# Altium footprint library Discrete_Passive.PcbLib: 313 footprints (part 15 of 20)
Each footprint in its own frame and in the unit in brackets; x right, y up, seen from the top. Pads: shape width x height; smd on the part's side, far side on the other; paste and mask are expansions set on the pad; w line width, h text height; cw(c..) or ccw(c..) is an arc to the next point about the centre after c.
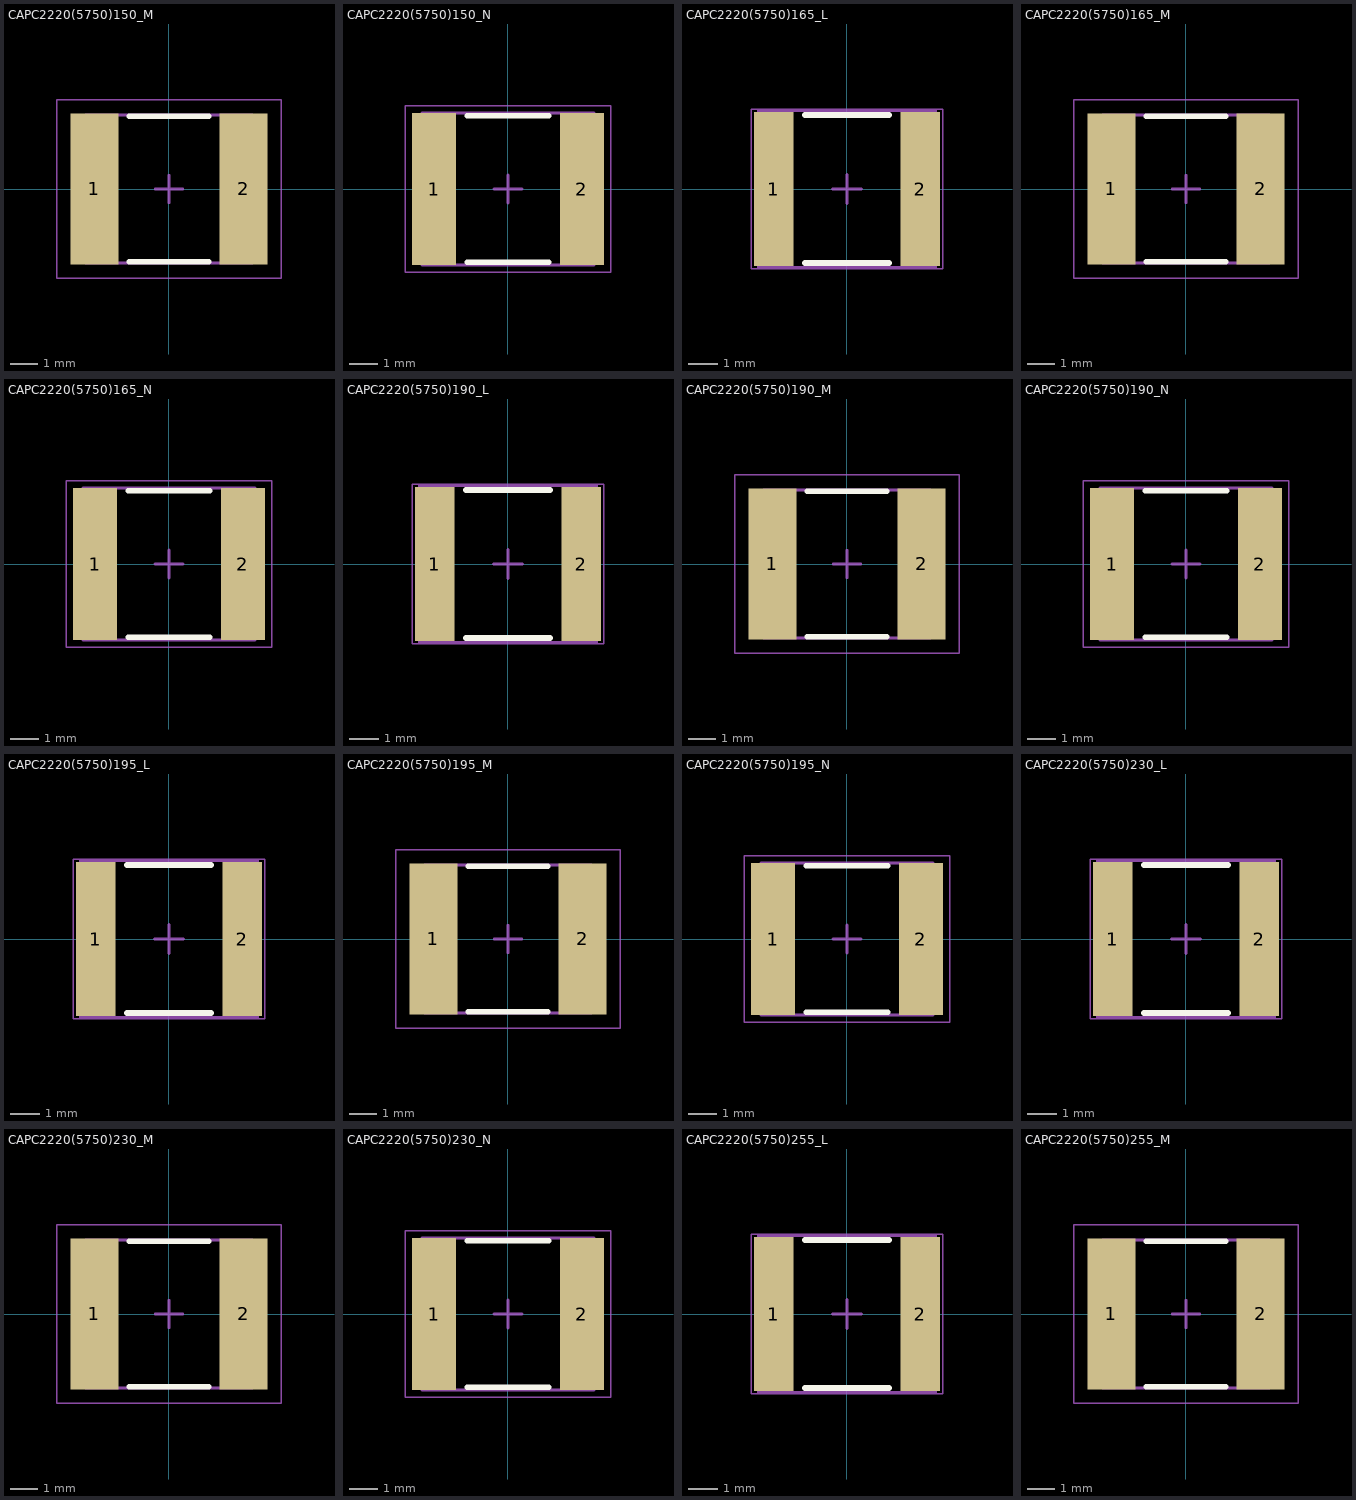
[diagram p14: the footprints below, top view; thin cyan lines are the x and y axes]

## CAPC2220(5750)150_M [mm] "Chip Capacitor, Body 5.7x5.0mm, Height 1.5mm, IPC Low Density"
height 1.5
pads (2):
  rect 1.75x5.5 smd: 1(-2.725,0) 2(2.725,0)
Top Overlay:
  lines w0.2: -1.45,-2.65 1.45,-2.65 ; -1.45,2.65 1.45,2.65
Mechanical 13:
  lines w0.1: -3.05,-2.7 3.05,-2.7 3.05,2.7 -3.05,2.7 -3.05,-2.7
Mechanical 15:
  lines w0.05: -4.1,-3.25 4.1,-3.25 4.1,3.25 -4.1,3.25 -4.1,-3.25
  lines w0.1: -0.5,0 0.5,0 ; 0,-0.5 0,0.5
3D body: height 1.5, standoff 0, extent 2.45,-2.7 3.05,2.7
3D body: height 1.5, standoff 0, extent -3.05,-2.7 -2.45,2.7
3D body: height 1.5, standoff 0, extent -2.45,-2.7 2.45,2.7

## CAPC2220(5750)150_N [mm] "Chip Capacitor, Body 5.7x5.0mm, Height 1.5mm, IPC Medium Density"
height 1.5
pads (2):
  rect 1.55x5.4 smd: 1(-2.625,0) 2(2.625,0)
Top Overlay:
  lines w0.2: -1.45,-2.6 1.45,-2.6 ; -1.45,2.6 1.45,2.6
Mechanical 13:
  lines w0.1: -3.05,-2.7 3.05,-2.7 3.05,2.7 -3.05,2.7 -3.05,-2.7
Mechanical 15:
  lines w0.05: -3.65,-2.95 3.65,-2.95 3.65,2.95 -3.65,2.95 -3.65,-2.95
  lines w0.1: -0.5,0 0.5,0 ; 0,-0.5 0,0.5
3D body: height 1.5, standoff 0, extent 2.45,-2.7 3.05,2.7
3D body: height 1.5, standoff 0, extent -3.05,-2.7 -2.45,2.7
3D body: height 1.5, standoff 0, extent -2.45,-2.7 2.45,2.7

## CAPC2220(5750)165_L [mm] "Chip Capacitor, Body 5.7x5.0mm, Height 1.65mm, IPC High Density"
height 1.65
pads (2):
  rect 1.35x5.3 smd: 1(-2.525,0) 2(2.525,0)
Top Overlay:
  lines w0.2: -1.45,-2.55 1.45,-2.55 ; -1.45,2.55 1.45,2.55
Mechanical 13:
  lines w0.1: -3.05,-2.7 3.05,-2.7 3.05,2.7 -3.05,2.7 -3.05,-2.7
Mechanical 15:
  lines w0.05: -3.3,-2.75 3.3,-2.75 3.3,2.75 -3.3,2.75 -3.3,-2.75
  lines w0.1: -0.5,0 0.5,0 ; 0,-0.5 0,0.5
3D body: height 1.65, standoff 0, extent 2.45,-2.7 3.05,2.7
3D body: height 1.65, standoff 0, extent -3.05,-2.7 -2.45,2.7
3D body: height 1.65, standoff 0, extent -2.45,-2.7 2.45,2.7

## CAPC2220(5750)165_M [mm] "Chip Capacitor, Body 5.7x5.0mm, Height 1.65mm, IPC Low Density"
height 1.65
pads (2):
  rect 1.75x5.5 smd: 1(-2.725,0) 2(2.725,0)
Top Overlay:
  lines w0.2: -1.45,-2.65 1.45,-2.65 ; -1.45,2.65 1.45,2.65
Mechanical 13:
  lines w0.1: -3.05,-2.7 3.05,-2.7 3.05,2.7 -3.05,2.7 -3.05,-2.7
Mechanical 15:
  lines w0.05: -4.1,-3.25 4.1,-3.25 4.1,3.25 -4.1,3.25 -4.1,-3.25
  lines w0.1: -0.5,0 0.5,0 ; 0,-0.5 0,0.5
3D body: height 1.65, standoff 0, extent 2.45,-2.7 3.05,2.7
3D body: height 1.65, standoff 0, extent -3.05,-2.7 -2.45,2.7
3D body: height 1.65, standoff 0, extent -2.45,-2.7 2.45,2.7

## CAPC2220(5750)165_N [mm] "Chip Capacitor, Body 5.7x5.0mm, Height 1.65mm, IPC Medium Density"
height 1.65
pads (2):
  rect 1.55x5.4 smd: 1(-2.625,0) 2(2.625,0)
Top Overlay:
  lines w0.2: -1.45,-2.6 1.45,-2.6 ; -1.45,2.6 1.45,2.6
Mechanical 13:
  lines w0.1: -3.05,-2.7 3.05,-2.7 3.05,2.7 -3.05,2.7 -3.05,-2.7
Mechanical 15:
  lines w0.05: -3.65,-2.95 3.65,-2.95 3.65,2.95 -3.65,2.95 -3.65,-2.95
  lines w0.1: -0.5,0 0.5,0 ; 0,-0.5 0,0.5
3D body: height 1.65, standoff 0, extent 2.45,-2.7 3.05,2.7
3D body: height 1.65, standoff 0, extent -3.05,-2.7 -2.45,2.7
3D body: height 1.65, standoff 0, extent -2.45,-2.7 2.45,2.7

## CAPC2220(5750)190_L [mm] "Chip Capacitor, Body 5.7x5mm, Height 1.9mm, IPC High Density"
height 1.9
pads (2):
  rect 1.35x5.3 smd: 1(-2.525,0) 2(2.525,0)
Top Overlay:
  lines w0.2: -1.45,-2.55 1.45,-2.55 ; -1.45,2.55 1.45,2.55
Mechanical 13:
  lines w0.1: -3.05,-2.7 3.05,-2.7 3.05,2.7 -3.05,2.7 -3.05,-2.7
Mechanical 15:
  lines w0.05: -3.3,-2.75 3.3,-2.75 3.3,2.75 -3.3,2.75 -3.3,-2.75
  lines w0.1: -0.5,0 0.5,0 ; 0,-0.5 0,0.5
3D body: height 1.9, standoff 0, extent 2.45,-2.7 3.05,2.7
3D body: height 1.9, standoff 0, extent -3.05,-2.7 -2.45,2.7
3D body: height 1.9, standoff 0, extent -2.45,-2.7 2.45,2.7

## CAPC2220(5750)190_M [mm] "Chip Capacitor, Body 5.7x5mm, Height 1.9mm, IPC Low Density"
height 1.9
pads (2):
  rect 1.75x5.5 smd: 1(-2.725,0) 2(2.725,0)
Top Overlay:
  lines w0.2: -1.45,-2.65 1.45,-2.65 ; -1.45,2.65 1.45,2.65
Mechanical 13:
  lines w0.1: -3.05,-2.7 3.05,-2.7 3.05,2.7 -3.05,2.7 -3.05,-2.7
Mechanical 15:
  lines w0.05: -4.1,-3.25 4.1,-3.25 4.1,3.25 -4.1,3.25 -4.1,-3.25
  lines w0.1: -0.5,0 0.5,0 ; 0,-0.5 0,0.5
3D body: height 1.9, standoff 0, extent 2.45,-2.7 3.05,2.7
3D body: height 1.9, standoff 0, extent -3.05,-2.7 -2.45,2.7
3D body: height 1.9, standoff 0, extent -2.45,-2.7 2.45,2.7

## CAPC2220(5750)190_N [mm] "Chip Capacitor, Body 5.7x5mm, Height 1.9mm, IPC Medium Density"
height 1.9
pads (2):
  rect 1.55x5.4 smd: 1(-2.625,0) 2(2.625,0)
Top Overlay:
  lines w0.2: -1.45,-2.6 1.45,-2.6 ; -1.45,2.6 1.45,2.6
Mechanical 13:
  lines w0.1: -3.05,-2.7 3.05,-2.7 3.05,2.7 -3.05,2.7 -3.05,-2.7
Mechanical 15:
  lines w0.05: -3.65,-2.95 3.65,-2.95 3.65,2.95 -3.65,2.95 -3.65,-2.95
  lines w0.1: -0.5,0 0.5,0 ; 0,-0.5 0,0.5
3D body: height 1.9, standoff 0, extent 2.45,-2.7 3.05,2.7
3D body: height 1.9, standoff 0, extent -3.05,-2.7 -2.45,2.7
3D body: height 1.9, standoff 0, extent -2.45,-2.7 2.45,2.7

## CAPC2220(5750)195_L [mm] "Chip Capacitor, Body 5.7x5.0mm, Height 1.95mm, IPC High Density"
height 1.95
pads (2):
  rect 1.35x5.3 smd: 1(-2.525,0) 2(2.525,0)
Top Overlay:
  lines w0.2: -1.45,-2.55 1.45,-2.55 ; -1.45,2.55 1.45,2.55
Mechanical 13:
  lines w0.1: -3.05,-2.7 3.05,-2.7 3.05,2.7 -3.05,2.7 -3.05,-2.7
Mechanical 15:
  lines w0.05: -3.3,-2.75 3.3,-2.75 3.3,2.75 -3.3,2.75 -3.3,-2.75
  lines w0.1: -0.5,0 0.5,0 ; 0,-0.5 0,0.5
3D body: height 1.95, standoff 0, extent 2.45,-2.7 3.05,2.7
3D body: height 1.95, standoff 0, extent -3.05,-2.7 -2.45,2.7
3D body: height 1.95, standoff 0, extent -2.45,-2.7 2.45,2.7

## CAPC2220(5750)195_M [mm] "Chip Capacitor, Body 5.7x5.0mm, Height 1.95mm, IPC Low Density"
height 1.95
pads (2):
  rect 1.75x5.5 smd: 1(-2.725,0) 2(2.725,0)
Top Overlay:
  lines w0.2: -1.45,-2.65 1.45,-2.65 ; -1.45,2.65 1.45,2.65
Mechanical 13:
  lines w0.1: -3.05,-2.7 3.05,-2.7 3.05,2.7 -3.05,2.7 -3.05,-2.7
Mechanical 15:
  lines w0.05: -4.1,-3.25 4.1,-3.25 4.1,3.25 -4.1,3.25 -4.1,-3.25
  lines w0.1: -0.5,0 0.5,0 ; 0,-0.5 0,0.5
3D body: height 1.95, standoff 0, extent 2.45,-2.7 3.05,2.7
3D body: height 1.95, standoff 0, extent -3.05,-2.7 -2.45,2.7
3D body: height 1.95, standoff 0, extent -2.45,-2.7 2.45,2.7

## CAPC2220(5750)195_N [mm] "Chip Capacitor, Body 5.7x5.0mm, Height 1.95mm, IPC Medium Density"
height 1.95
pads (2):
  rect 1.55x5.4 smd: 1(-2.625,0) 2(2.625,0)
Top Overlay:
  lines w0.2: -1.45,-2.6 1.45,-2.6 ; -1.45,2.6 1.45,2.6
Mechanical 13:
  lines w0.1: -3.05,-2.7 3.05,-2.7 3.05,2.7 -3.05,2.7 -3.05,-2.7
Mechanical 15:
  lines w0.05: -3.65,-2.95 3.65,-2.95 3.65,2.95 -3.65,2.95 -3.65,-2.95
  lines w0.1: -0.5,0 0.5,0 ; 0,-0.5 0,0.5
3D body: height 1.95, standoff 0, extent 2.45,-2.7 3.05,2.7
3D body: height 1.95, standoff 0, extent -3.05,-2.7 -2.45,2.7
3D body: height 1.95, standoff 0, extent -2.45,-2.7 2.45,2.7

## CAPC2220(5750)230_L [mm] "Chip Capacitor, Body 5.7x5.0mm, Height 2.3mm, IPC High Density"
height 2.3
pads (2):
  rect 1.35x5.3 smd: 1(-2.525,0) 2(2.525,0)
Top Overlay:
  lines w0.2: -1.45,-2.55 1.45,-2.55 ; -1.45,2.55 1.45,2.55
Mechanical 13:
  lines w0.1: -3.05,-2.7 3.05,-2.7 3.05,2.7 -3.05,2.7 -3.05,-2.7
Mechanical 15:
  lines w0.05: -3.3,-2.75 3.3,-2.75 3.3,2.75 -3.3,2.75 -3.3,-2.75
  lines w0.1: -0.5,0 0.5,0 ; 0,-0.5 0,0.5
3D body: height 2.3, standoff 0, extent 2.45,-2.7 3.05,2.7
3D body: height 2.3, standoff 0, extent -3.05,-2.7 -2.45,2.7
3D body: height 2.3, standoff 0, extent -2.45,-2.7 2.45,2.7

## CAPC2220(5750)230_M [mm] "Chip Capacitor, Body 5.7x5.0mm, Height 2.3mm, IPC Low Density"
height 2.3
pads (2):
  rect 1.75x5.5 smd: 1(-2.725,0) 2(2.725,0)
Top Overlay:
  lines w0.2: -1.45,-2.65 1.45,-2.65 ; -1.45,2.65 1.45,2.65
Mechanical 13:
  lines w0.1: -3.05,-2.7 3.05,-2.7 3.05,2.7 -3.05,2.7 -3.05,-2.7
Mechanical 15:
  lines w0.05: -4.1,-3.25 4.1,-3.25 4.1,3.25 -4.1,3.25 -4.1,-3.25
  lines w0.1: -0.5,0 0.5,0 ; 0,-0.5 0,0.5
3D body: height 2.3, standoff 0, extent 2.45,-2.7 3.05,2.7
3D body: height 2.3, standoff 0, extent -3.05,-2.7 -2.45,2.7
3D body: height 2.3, standoff 0, extent -2.45,-2.7 2.45,2.7

## CAPC2220(5750)230_N [mm] "Chip Capacitor, Body 5.7x5.0mm, Height 2.3mm, IPC Medium Density"
height 2.3
pads (2):
  rect 1.55x5.4 smd: 1(-2.625,0) 2(2.625,0)
Top Overlay:
  lines w0.2: -1.45,-2.6 1.45,-2.6 ; -1.45,2.6 1.45,2.6
Mechanical 13:
  lines w0.1: -3.05,-2.7 3.05,-2.7 3.05,2.7 -3.05,2.7 -3.05,-2.7
Mechanical 15:
  lines w0.05: -3.65,-2.95 3.65,-2.95 3.65,2.95 -3.65,2.95 -3.65,-2.95
  lines w0.1: -0.5,0 0.5,0 ; 0,-0.5 0,0.5
3D body: height 2.3, standoff 0, extent 2.45,-2.7 3.05,2.7
3D body: height 2.3, standoff 0, extent -3.05,-2.7 -2.45,2.7
3D body: height 2.3, standoff 0, extent -2.45,-2.7 2.45,2.7

## CAPC2220(5750)255_L [mm] "Chip Capacitor, Body 5.7x5.0mm, Height 2.55mm, IPC High Density"
height 2.55
pads (2):
  rect 1.35x5.3 smd: 1(-2.525,0) 2(2.525,0)
Top Overlay:
  lines w0.2: -1.45,-2.55 1.45,-2.55 ; -1.45,2.55 1.45,2.55
Mechanical 13:
  lines w0.1: -3.05,-2.7 3.05,-2.7 3.05,2.7 -3.05,2.7 -3.05,-2.7
Mechanical 15:
  lines w0.05: -3.3,-2.75 3.3,-2.75 3.3,2.75 -3.3,2.75 -3.3,-2.75
  lines w0.1: -0.5,0 0.5,0 ; 0,-0.5 0,0.5
3D body: height 2.55, standoff 0, extent 2.45,-2.7 3.05,2.7
3D body: height 2.55, standoff 0, extent -3.05,-2.7 -2.45,2.7
3D body: height 2.55, standoff 0, extent -2.45,-2.7 2.45,2.7

## CAPC2220(5750)255_M [mm] "Chip Capacitor, Body 5.7x5.0mm, Height 2.55mm, IPC Low Density"
height 2.55
pads (2):
  rect 1.75x5.5 smd: 1(-2.725,0) 2(2.725,0)
Top Overlay:
  lines w0.2: -1.45,-2.65 1.45,-2.65 ; -1.45,2.65 1.45,2.65
Mechanical 13:
  lines w0.1: -3.05,-2.7 3.05,-2.7 3.05,2.7 -3.05,2.7 -3.05,-2.7
Mechanical 15:
  lines w0.05: -4.1,-3.25 4.1,-3.25 4.1,3.25 -4.1,3.25 -4.1,-3.25
  lines w0.1: -0.5,0 0.5,0 ; 0,-0.5 0,0.5
3D body: height 2.55, standoff 0, extent 2.45,-2.7 3.05,2.7
3D body: height 2.55, standoff 0, extent -3.05,-2.7 -2.45,2.7
3D body: height 2.55, standoff 0, extent -2.45,-2.7 2.45,2.7